# EAGLE library part M55-7101242R (library J-Harwin-M55-7101242)
Harwin M55-7101242R A 12 pin 1.27 mm male SMT connector with plastic alignment pins. Note: alignment pin hole diameters are 0.05 mm smaller than recommended in order to tighten up connector location; this requires hand placement of this package.
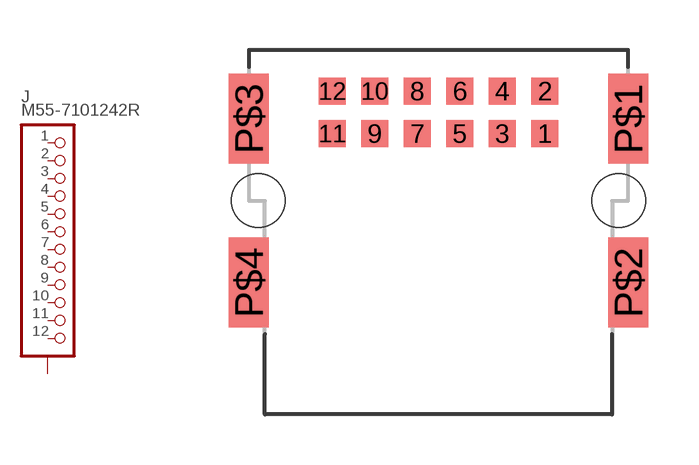
[diagram p0: symbol with the pads of M55-7101242R; footprint M55-7101242R]

Designator prefix J

## M55-7101242R  [M55-7101242R]
1  1  pas
2  2  pas
3  3  pas
4  4  pas
5  5  pas
6  6  pas
7  7  pas
8  8  pas
9  9  pas
10  10  pas
11  11  pas
12  12  pas
P$1  SHIELD  pas
P$2  SHIELD  pas
P$3  SHIELD  pas
P$4  SHIELD  pas

## Footprint M55-7101242R (pad centres in mm)
Harwin M55-7101242R A 12 pin 1.27 mm male SMT connector with plastic alignment pins. Note: alignment pin hole diameters are 0.05 mm smaller than recommended in order to tighten up connector location; this requires hand placement of this package.
smd 0.8 x 0.8: 1 3.175,2; 2 3.175,3.27; 3 1.905,2; 4 1.905,3.27; 5 0.635,2; 6 0.635,3.27; 7 -0.635,2; 8 -0.635,3.27; 9 -1.905,2; 10 -1.905,3.27; 11 -3.175,2; 12 -3.175,3.27
smd 1.2 x 2.7: P$1 5.67,2.45; P$2 5.67,-2.45; P$3 -5.67,2.45; P$4 -5.67,-2.45
hole 1.6 at 5.385,0
hole 1.6 at -5.385,0